# Altium footprint library TFBGA-64.PcbLib: 1 footprints
Each footprint in its own frame and in the unit in brackets; x right, y up, seen from the top. Pads: shape width x height; smd on the part's side, far side on the other; paste and mask are expansions set on the pad; w line width, h text height; cw(c..) or ccw(c..) is an arc to the next point about the centre after c.
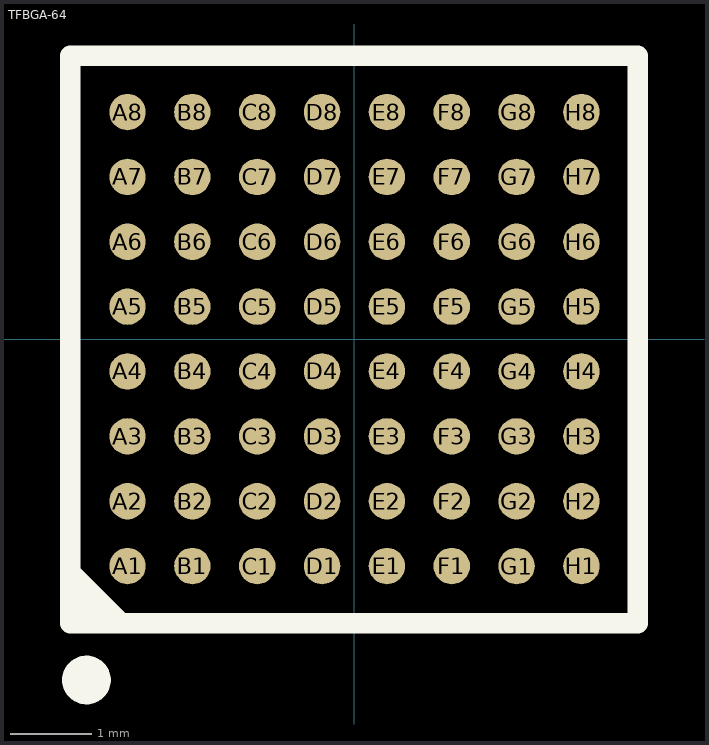
[diagram p0: the footprint, top view; thin cyan lines are the x and y axes]

## TFBGA-64 [mm]
pads (64):
  round 0.45 smd mask+0.051: A1(-2.8,-2.8) A2(-2.8,-2) A3(-2.8,-1.2) A4(-2.8,-0.4) A5(-2.8,0.4) A6(-2.8,1.2) A7(-2.8,2) A8(-2.8,2.8) B1(-2,-2.8) B2(-2,-2) B3(-2,-1.2) B4(-2,-0.4) B5(-2,0.4) B6(-2,1.2) B7(-2,2) B8(-2,2.8) C1(-1.2,-2.8) C2(-1.2,-2) C3(-1.2,-1.2) C4(-1.2,-0.4) C5(-1.2,0.4) C6(-1.2,1.2) C7(-1.2,2) C8(-1.2,2.8) D1(-0.4,-2.8) D2(-0.4,-2) D3(-0.4,-1.2) D4(-0.4,-0.4) D5(-0.4,0.4) D6(-0.4,1.2) D7(-0.4,2) D8(-0.4,2.8) E1(0.4,-2.8) E2(0.4,-2) E3(0.4,-1.2) E4(0.4,-0.4) E5(0.4,0.4) E6(0.4,1.2) E7(0.4,2) E8(0.4,2.8) F1(1.2,-2.8) F2(1.2,-2) F3(1.2,-1.2) F4(1.2,-0.4) F5(1.2,0.4) F6(1.2,1.2) F7(1.2,2) F8(1.2,2.8) G1(2,-2.8) G2(2,-2) G3(2,-1.2) G4(2,-0.4) G5(2,0.4) G6(2,1.2) G7(2,2) G8(2,2.8) H1(2.8,-2.8) H2(2.8,-2) H3(2.8,-1.2) H4(2.8,-0.4) H5(2.8,0.4) H6(2.8,1.2) H7(2.8,2) H8(2.8,2.8)
Top Overlay:
  circle w0.3: c-3.306,-4.206 r0.15
  region: -3.456,-2.756 -2.756,-3.456 -3.456,-3.456
  lines w0.254: -3.506,-3.506 3.494,-3.506 3.494,3.494 -3.506,3.494 -3.506,-3.506